# EAGLE library part RX8035 (library FlukeNic)
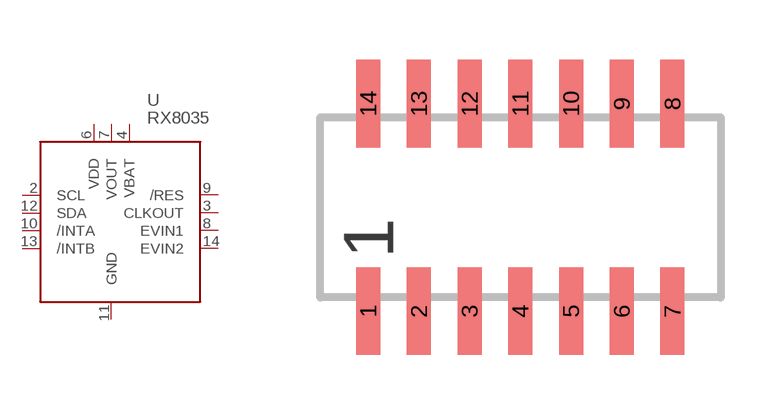
[diagram p5: symbol with the pads of SOP14; footprint SOP14]

Designator prefix U

## RX8035  [SOP14]
2  SCL  in
3  CLKOUT  out
4  VBAT  pwr
6  VDD  pwr
7  VOUT  sup
8  EVIN1  in
9  /RES  in
10  /INTA  out
11  GND  pwr
12  SDA
13  /INTB  out
14  EVIN2  in

## Footprint SOP14 (pad centres in mm)
SMALL OUTLINE PACKAGE
smd 0.6 x 2.2: 1 -3.81,-2.6; 2 -2.54,-2.6; 3 -1.27,-2.6; 4 0,-2.6; 5 1.27,-2.6; 6 2.54,-2.6; 7 3.81,-2.6; 8 3.81,2.6; 9 2.54,2.6; 10 1.27,2.6; 11 0,2.6; 12 -1.27,2.6; 13 -2.54,2.6; 14 -3.81,2.6